# Altium footprint library GPS_NEO-6M.PcbLib: 11 footprints
Each footprint in its own frame and in the unit in brackets; x right, y up, seen from the top. Pads: shape width x height; smd on the part's side, far side on the other; paste and mask are expansions set on the pad; w line width, h text height; cw(c..) or ccw(c..) is an arc to the next point about the centre after c.
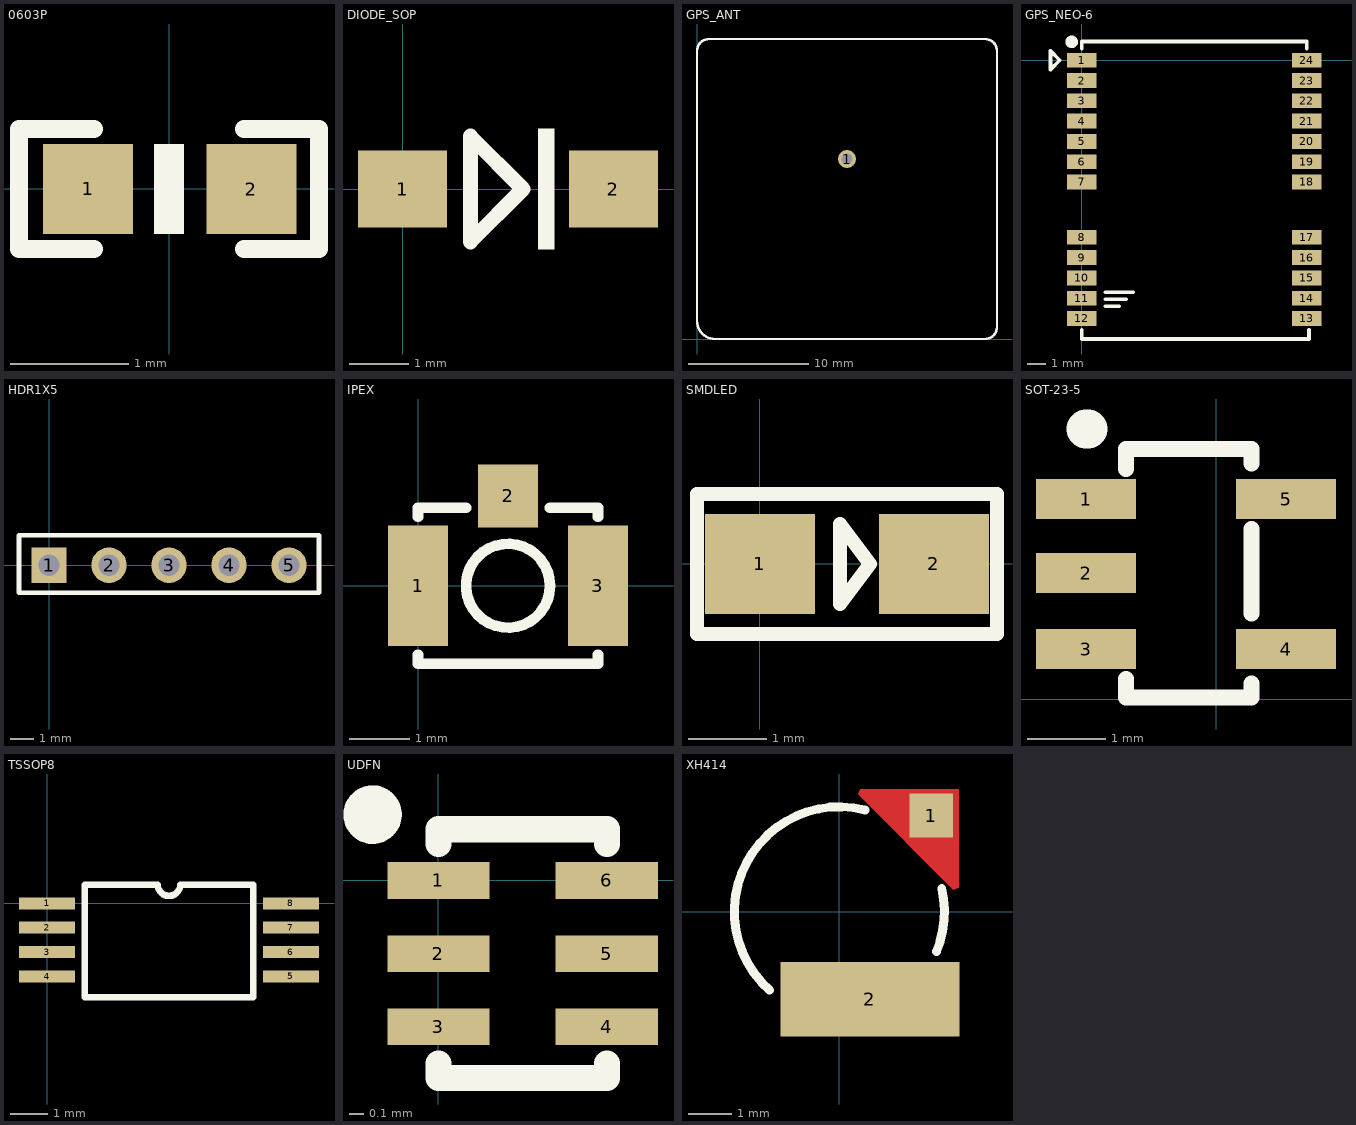
[diagram p0: the footprints below, top view; thin cyan lines are the x and y axes]

## 0603P [mil]
pads (2):
  rect 30x30 smd: 1(-27,0) 2(27.5,-0.06)
Top Overlay:
  region: 5,-15.06 5,14.94 -5,14.94 -5,-15.06
  lines w6: -25,-20.06 -50,-20.06 -50,19.94 -25,19.94 ; 25,-20.06 50,-20.06 50,19.94 25,19.94

## DIODE_SOP [mm]
pads (2):
  rect 1.5x1.3 smd: 1(0,0) 2(3.556,0)
Top Overlay:
  rectangle: 2.286,-1.016 2.559,1.016
  lines w0.254: 1.143,-0.889 1.143,0.889 2.032,0 1.143,-0.889

## GPS_ANT [mm]
pads (1):
  round 1.5 hole 0.9: 1(12.5,15)
Top Overlay:
  lines w0.203: 0.9,25 24,25 cw(c24,24) 25,24 25,1 cw(c24,1) 24,0 1.5,0 cw(c1.5,1.5) 0,1.5 0,24 cw(c1,24) 1,25

## GPS_NEO-6 [mm]
pads (24):
  rect 1.6x0.8 smd: 1(0,0) 2(0,-1.1) 3(0,-2.2) 4(0,-3.3) 5(0,-4.4) 6(0,-5.5) 7(0,-6.6) 8(0,-9.6) 9(0,-10.7) 10(0,-11.8) 11(0,-12.9) 12(0,-14) 13(12.2,-14) 14(12.2,-12.9) 15(12.2,-11.8) 16(12.2,-10.7) 17(12.2,-9.6) 18(12.2,-6.6) 19(12.2,-5.5) 20(12.2,-4.4) 21(12.2,-3.3) 22(12.2,-2.2) 23(12.2,-1.1) 24(12.2,0)
Top Overlay:
  circle w0.381: c-0.552,1 r0.152
  lines w0.152: -1.7,-0.5 -1.7,0.5 -1.2,0 -1.7,-0.5
  lines w0.203: 0,-14.605 0,-15.113 12.319,-15.113 12.319,-14.605 ; 0,0.635 0,1.016 12.192,1.016 12.192,0.635 ; 1.27,-13.335 2.032,-13.335 ; 1.27,-12.954 2.413,-12.954 ; 1.27,-12.573 2.794,-12.573 ; -1.2,0 -1.7,-0.5 -1.7,0.5 -1.2,0 ; -1.2,0 -1.2,0

## HDR1X5 [mm]
pads (5):
  rect 1.5x1.5 hole 0.9: 1(0,0)
  round 1.5 hole 0.9: 2(2.54,0) 3(5.08,0) 4(7.62,0) 5(10.16,0)
Top Overlay:
  lines w0.2: -1.27,-1.168 -1.27,1.27 11.43,1.27 11.43,-1.168 -1.27,-1.168

## IPEX [mm]
pads (3):
  rect 1x2 smd: 1(0,0) 3(3,0)
  rect 1x1.05 smd: 2(1.5,1.5)
Top Overlay:
  circle w0.178: c1.5,0 r0.7
  lines w0.178: 0,-1.15 0,-1.3 3,-1.3 3,-1.15 ; 0,1.15 0,1.3 0.8,1.3 ; 2.2,1.3 3,1.3 3,1.15

## SMDLED [mm]
pads (2):
  rect 1.4x1.27 smd: 1(0.001,-0.002) 2(2.211,-0.002)
Top Overlay:
  lines w0.178: 3.012,0.887 3.011,0.887 ; 3.011,0.887 -0.799,0.887 -0.799,-0.002 -0.799,-0.891 3.011,-0.891 3.011,0.887 ; 1.017,-0.51 1.398,-0.002 1.017,0.506 1.017,-0.51

## SOT-23-5 [mil]
pads (5):
  rect 50x20 smd: 1(-65,100) 2(-65,63) 3(-65,25) 4(35,25) 5(35,100)
Top Overlay:
  lines w8: -45,10 -45,0.68 17.76,0.68 17.76,7.76 ; -45,115 -45,125 17.76,125 17.76,117.76 ; 17.76,42.76 17.76,85
  lines w19.68: -65,135 -64,135

## TSSOP8 [mm]
pads (8):
  rect 1.5x0.32 smd: 1(0,0) 2(0,-0.65) 3(0,-1.3) 4(0,-1.95) 5(6.5,-1.95) 6(6.5,-1.3) 7(6.5,-0.65) 8(6.5,0)
Top Overlay:
  lines w0.178: 1,0.5 1,-2.5 5.5,-2.5 5.5,0.5 3.55,0.5 cw(c3.25,0.5) 2.95,0.5 1.05,0.5

## UDFN [mm]
pads (6):
  rect 0.7x0.25 smd: 1(0,0) 2(0,-0.5) 3(0,-1) 4(1.15,-1) 5(1.15,-0.5) 6(1.15,0)
Top Overlay:
  circle w0.2: c-0.45,0.45 r0.1
  lines w0.178: 0,-1.25 0,-1.35 1.15,-1.35 1.15,-1.25 ; 0,0.25 0,0.35 1.15,0.35 1.15,0.25

## XH414 [mm]
pads (2):
  rect 1x1 smd: 1(2.1,2.2)
  rect 4.1x1.7 smd: 2(0.7,-2)
Top Layer:
  region: 2.724,0.553 2.606,0.504 0.428,2.683 0.476,2.8 2.724,2.8
Top Overlay:
  lines w0.203: -1.594,-1.794 cw(c0,0) 0.582,2.328 ; 2.221,-0.909 ccw(c0,0) 2.34,0.532
Top Solder:
  region: 2.706,0.559 2.589,0.511 0.411,2.689 0.459,2.806 2.706,2.806